# Altium footprint library CLAP.PcbLib: 265 footprints (part 7 of 17)
Each footprint in its own frame and in the unit in brackets; x right, y up, seen from the top. Pads: shape width x height; smd on the part's side, far side on the other; paste and mask are expansions set on the pad; w line width, h text height; cw(c..) or ccw(c..) is an arc to the next point about the centre after c.
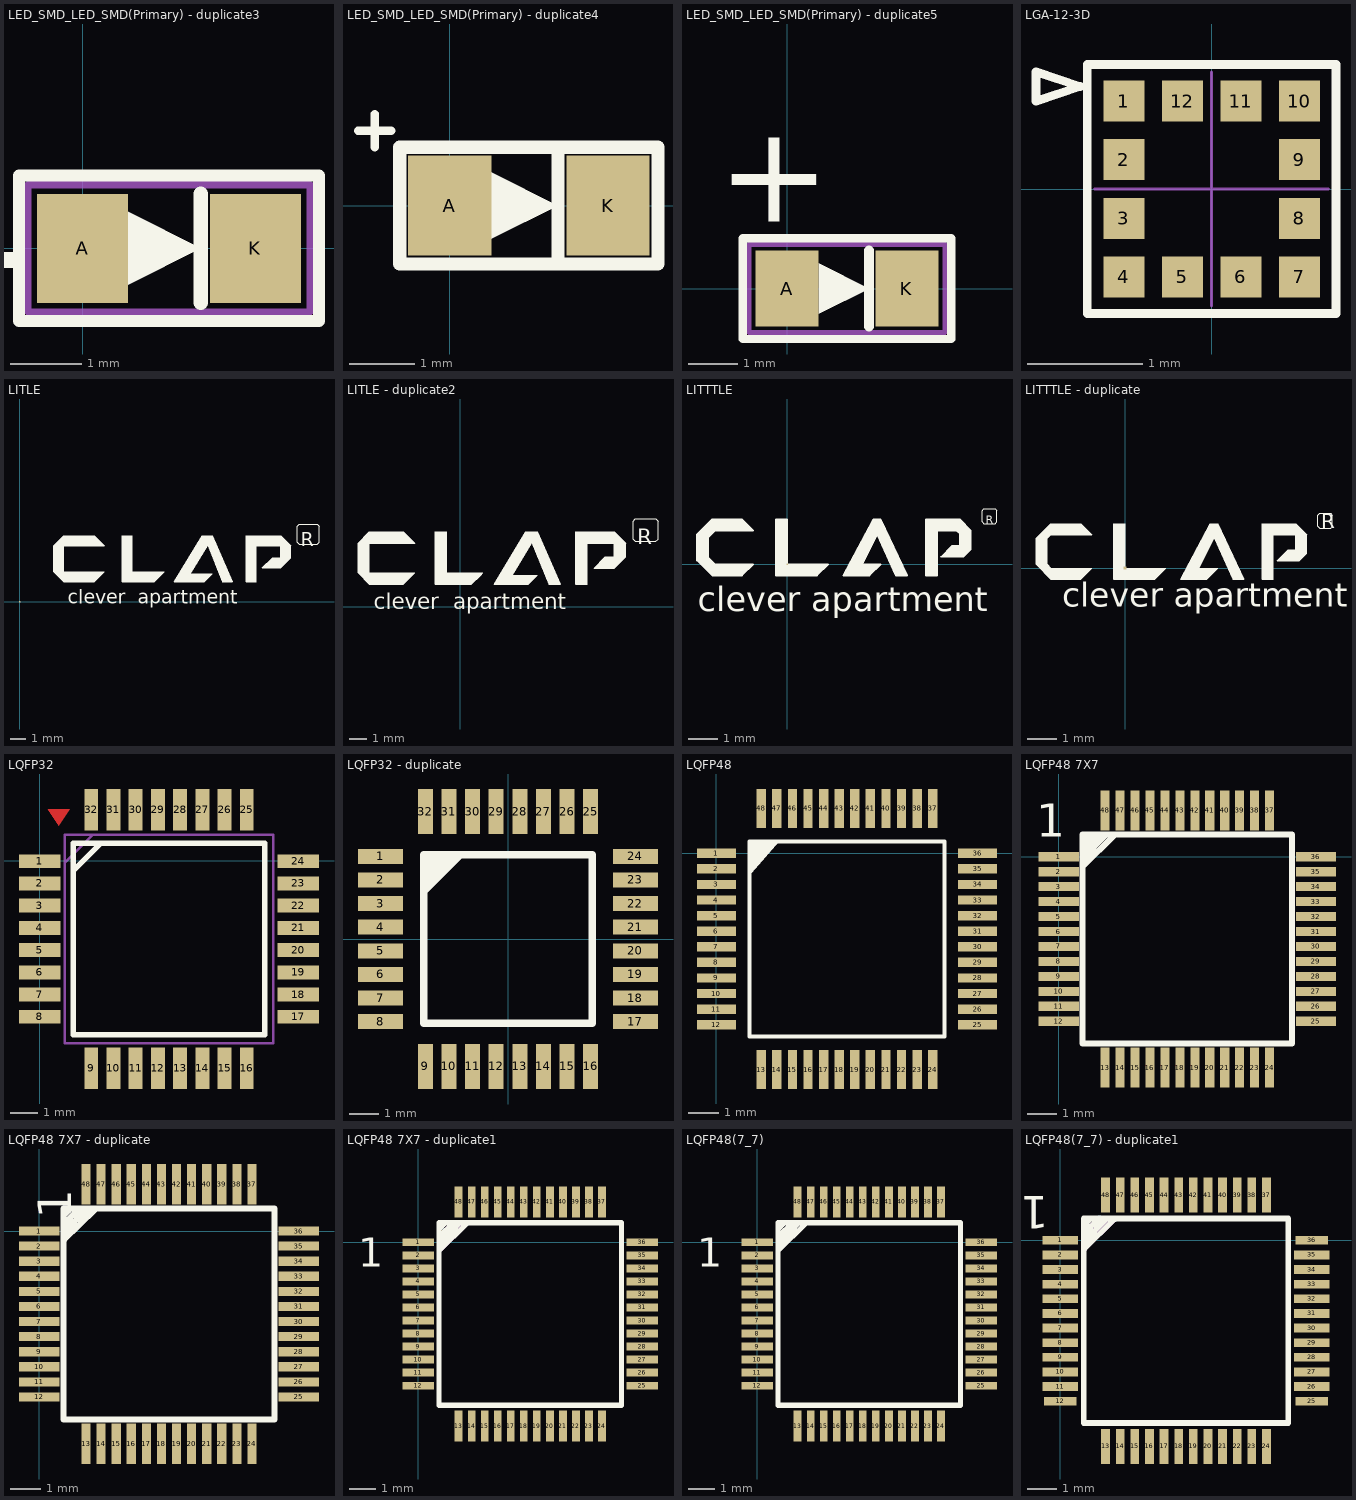
[diagram p6: the footprints below, top view; thin cyan lines are the x and y axes]

## LED_SMD_LED_SMD(Primary) - duplicate3 [mil]
pads (2):
  rect 50x60 smd: A(0,0) K(95,0)
Top Overlay:
  region: 65,0 25,-20 25,20
  lines w6.69: -35,-40 -35,40 130,40 130,-40 -35,-40
  lines w8: 65,-30 65,30
  text "+" at -20.61,27.12 h78.12
Mechanical 1:
  lines w3.94: -30,-35 -30,35 125,35 125,-35 -30,-35
  text "+" at -18.65,56.65 h78.12
3D body "LED_1206_3216Metric.step": height 43.31, standoff 0, extent -15.75,-31.5 110.23,31.5

## LED_SMD_LED_SMD(Primary) - duplicate4 [mil]
pads (2):
  rect 50x60 smd: A(0,0) K(95,0)
Top Overlay:
  region: 25,20 25,-20 65,0
  lines w5: -55,45 -35,45 ; -45,35 -45,55
  lines w8: 65,-30 65,30 ; -30,-35 -30,35 125,35 125,-35 -30,-35
3D body "LED_1206_3216Metric.step": height 43.31, standoff 0, extent -15.75,-31.5 110.23,31.49

## LED_SMD_LED_SMD(Primary) - duplicate5 [mil]
pads (2):
  rect 50x60 smd: A(0,0) K(95,0)
Top Overlay:
  region: 65,0 25,-20 25,20
  lines w6.69: -35,-40 130,-40 130,40 -35,40 -35,-40
  lines w8: 65,-30 65,30
  text "+" at 34.5,119.64 h78.12
Mechanical 1:
  lines w3.94: -30,-35 125,-35 125,35 -30,35 -30,-35
  text "+" at 36.47,52.71 h78.12
3D body "LED_1206_3216Metric.step": height 43.31, standoff 0, extent -13,-31.5 112.99,31.49

## LGA-12-3D [mil]
pads (12):
  rect 14x14 smd: 1(-30,30) 2(-30,10) 3(-30,-10) 4(-30,-30) 5(-10,-30) 6(10,-30) 7(30,-30) 8(30,-10) 9(30,10) 10(30,30) 11(10,30) 12(-10,30)
Top Overlay:
  lines w3: -60,30 -45,35 -60,40 -60,30 ; -42.5,-42.5 42.5,-42.5 42.5,42.5 -42.5,42.5 -42.5,-42.5
Mechanical 1:
  lines w1: -40,0 40,0 ; 0,-40 0,40
3D body "PQFN12P50_200X200X70L27X25.STEP": height 27.56, standoff 0, extent -39.37,-39.37 39.37,39.37

## LITLE [mm]
pads (1):
  rect 0.1x0.1 smd: 1(0,0)
Top Overlay:
  region: 14.351,1.27 14.986,1.27 14.986,3.556 16.51,3.556 16.51,2.794 16.002,2.794 15.367,2.159 16.51,2.159 17.145,2.794 17.145,3.556 16.51,4.191 14.351,4.191
  region: 6.477,1.27 8.509,1.27 9.144,1.905 7.112,1.905 7.112,4.191 6.477,4.191
  region: 9.779,1.27 11.684,1.27 12.192,1.778 10.795,1.778 11.259,2.588 11.889,3.596 12.827,1.27 13.462,1.27 12.192,4.191 11.557,4.191
  region: 2.159,3.556 2.159,1.905 2.794,1.27 4.699,1.27 5.334,1.905 2.794,1.905 2.794,3.556 5.334,3.556 4.699,4.191 2.794,4.191
  lines w0.025: 11.889,3.596 10.795,1.778 12.192,1.778 11.684,1.27 10.414,1.27 9.779,1.27 11.557,4.191 12.065,4.191 12.192,4.191 13.462,1.27 12.827,1.27 11.938,3.556 ; 2.159,1.905 2.159,3.556 2.794,4.191 4.699,4.191 5.334,3.556 2.794,3.556 2.794,1.905 5.334,1.905 4.699,1.27 2.794,1.27 2.159,1.905 ; 6.477,1.27 8.509,1.27 9.017,1.778 9.144,1.905 7.112,1.905 7.112,4.191 6.477,4.191 6.477,1.27 ; 14.351,1.27 14.351,4.191 16.51,4.191 17.145,3.556 17.145,2.794 16.51,2.159 15.367,2.159 16.002,2.794 16.51,2.794 16.51,3.556 14.986,3.556 14.986,1.27 14.351,1.27 ; 17.559,3.785 17.559,4.793 17.685,4.919 18.819,4.919 18.945,4.793 18.945,3.785 18.819,3.659 17.685,3.659 17.559,3.785
  text "clever  apartment" at 3.048,-0.127 h0.87
  text "R" at 17.78,3.505 h0.87

## LITLE - duplicate2 [mm]
pads (1):
  rect 0.1x0.1 smd: 1(0,0)
Top Overlay:
  region: -5.715,3.556 -5.715,1.905 -5.08,1.27 -3.175,1.27 -2.54,1.905 -5.08,1.905 -5.08,3.556 -2.54,3.556 -3.175,4.191 -5.08,4.191
  region: 1.905,1.27 3.81,1.27 4.318,1.778 2.921,1.778 3.385,2.588 4.015,3.596 4.953,1.27 5.588,1.27 4.318,4.191 3.683,4.191
  region: -1.397,1.27 0.635,1.27 1.27,1.905 -0.762,1.905 -0.762,4.191 -1.397,4.191
  region: 6.477,1.27 7.112,1.27 7.112,3.556 8.636,3.556 8.636,2.794 8.128,2.794 7.493,2.159 8.636,2.159 9.271,2.794 9.271,3.556 8.636,4.191 6.477,4.191
  lines w0.025: 4.015,3.596 2.921,1.778 4.318,1.778 3.81,1.27 2.54,1.27 1.905,1.27 3.683,4.191 4.191,4.191 4.318,4.191 5.588,1.27 4.953,1.27 4.064,3.556 ; -5.715,1.905 -5.08,1.27 -3.175,1.27 -2.54,1.905 -5.08,1.905 -5.08,3.556 -2.54,3.556 -3.175,4.191 -5.08,4.191 -5.715,3.556 -5.715,1.905 ; -1.397,1.27 -1.397,4.191 -0.762,4.191 -0.762,1.905 1.27,1.905 1.143,1.778 0.635,1.27 -1.397,1.27 ; 6.477,1.27 7.112,1.27 7.112,3.556 8.636,3.556 8.636,2.794 8.128,2.794 7.493,2.159 8.636,2.159 9.271,2.794 9.271,3.556 8.636,4.191 6.477,4.191 6.477,1.27 ; 9.685,3.785 9.811,3.659 10.945,3.659 11.071,3.785 11.071,4.793 10.945,4.919 9.811,4.919 9.685,4.793 9.685,3.785
  text "R" at 9.906,3.505 h0.87
  text "clever  apartment" at -4.826,-0.127 h0.87

## LITTTLE [mm]
pads (1):
  rect 0.05x0.05 smd: 1(0,0)
Top Overlay:
  region: -2.413,1.143 -2.667,0.889 -2.667,0.254 -2.413,0 -1.143,0 -1.524,-0.381 -2.54,-0.381 -3.048,0.127 -3.048,1.016 -2.54,1.524 -1.524,1.524 -1.143,1.143
  region: 0,1.524 0,0 1.397,0 1.016,-0.381 -0.381,-0.381 -0.381,1.524
  region: 4.699,-0.381 4.699,1.524 5.842,1.524 6.223,1.143 6.223,0.508 5.969,0.254 5.207,0.254 5.588,0.635 5.842,0.635 5.842,1.016 5.715,1.143 5.08,1.143 5.08,-0.381
  region: 3.175,0 2.794,-0.381 1.905,-0.381 2.921,1.524 3.175,1.524 4.064,-0.381 3.683,-0.381 3.048,1.016 2.54,0
  lines w0.025: -2.667,0.127 -2.54,0 ; -2.667,1.016 -2.54,1.143 ; 6.6,1.434 6.663,1.371 7.041,1.371 7.104,1.434 7.104,1.812 7.041,1.875 6.663,1.875 6.6,1.812 6.6,1.434
  lines w0.051: -2.667,0.127 -2.667,1.016 ; -2.54,0 -1.143,0 -1.524,-0.381 -2.54,-0.381 -3.048,0.127 -3.048,1.016 -2.54,1.524 -1.778,1.524 -1.524,1.524 -1.143,1.143 -2.54,1.143 ; -0.381,-0.381 1.016,-0.381 1.397,0 0,0 0,1.524 -0.381,1.524 -0.381,-0.381 ; 1.905,-0.381 2.667,-0.381 2.794,-0.381 3.175,0 2.54,0 3.048,1.016 3.683,-0.381 4.064,-0.381 3.175,1.524 2.921,1.524 1.905,-0.381 ; 4.699,-0.381 5.08,-0.381 5.08,1.143 5.842,1.143 5.842,0.635 5.588,0.635 5.207,0.254 5.969,0.254 6.223,0.508 6.223,1.143 5.842,1.524 4.699,1.524 4.699,-0.381
  text "R" at 6.726,1.371 h0.28
  text "clever apartment" at -3.02,-1.85 h1.41

## LITTTLE - duplicate [mm]
pads (1):
  rect 0.1x0.1 smd: 1(0,0)
Top Overlay:
  region: -2.54,1.524 -1.524,1.524 -1.143,1.143 -2.54,1.143 -2.667,1.016 -2.667,0.127 -2.54,0 -1.143,0 -1.524,-0.381 -2.54,-0.381 -3.048,0.127 -3.048,1.016
  region: 2.921,1.524 3.175,1.524 4.064,-0.381 3.683,-0.381 3.048,1.016 2.54,0 3.175,0 2.794,-0.381 1.905,-0.381
  region: 4.699,1.524 5.842,1.524 6.223,1.143 6.223,0.508 5.969,0.254 5.207,0.254 5.588,0.635 5.842,0.635 5.842,1.143 5.08,1.143 5.08,-0.381 4.699,-0.381
  region: -0.381,1.524 0,1.524 0,0 1.397,0 1.016,-0.381 -0.381,-0.381
  lines w0.025: -3.048,0.127 -3.048,1.016 -2.54,1.524 -1.778,1.524 -1.524,1.524 -1.143,1.143 -2.54,1.143 -2.667,1.016 -2.667,0.127 -2.54,0 -1.143,0 -1.524,-0.381 -2.54,-0.381 -3.048,0.127 ; -0.381,-0.381 -0.381,1.524 0,1.524 0,0 1.397,0 1.016,-0.381 -0.381,-0.381 ; 1.905,-0.381 2.667,-0.381 2.794,-0.381 3.175,0 2.54,0 3.048,1.016 3.683,-0.381 4.064,-0.381 3.175,1.524 2.921,1.524 1.905,-0.381 ; 4.699,-0.381 5.08,-0.381 5.08,1.143 5.842,1.143 5.842,0.635 5.588,0.635 5.207,0.254 5.969,0.254 6.223,0.508 6.223,1.143 5.842,1.524 4.699,1.524 4.699,-0.381 ; 6.6,1.434 6.663,1.371 7.041,1.371 7.104,1.434 7.104,1.812 7.041,1.875 6.663,1.875 6.6,1.812 6.6,1.434
  text "R" at 6.726,1.371 h0.5
  text "clever apartment" at -2.157,-1.59 h1.41

## LQFP32 [mm]
height 1.5
pads (32):
  rect 1.5x0.5 smd: 1(0,-0.01) 2(0,-0.81) 3(0,-1.61) 4(0,-2.41) 5(0,-3.21) 6(0,-4.01) 7(0,-4.81) 8(0,-5.61) 17(9.3,-5.61) 18(9.3,-4.81) 19(9.3,-4.01) 20(9.3,-3.21) 21(9.3,-2.41) 22(9.3,-1.61) 23(9.3,-0.81) 24(9.3,-0.01)
  rect 0.5x1.5 smd: 9(1.85,-7.46) 10(2.65,-7.46) 11(3.45,-7.46) 12(4.25,-7.46) 13(5.05,-7.46) 14(5.85,-7.46) 15(6.65,-7.46) 16(7.45,-7.46) 25(7.45,1.84) 26(6.65,1.84) 27(5.85,1.84) 28(5.05,1.84) 29(4.25,1.84) 30(3.45,1.84) 31(2.65,1.84) 32(1.85,1.84)
Top Layer:
  region: 0.28,1.86 1.08,1.86 0.68,1.26
Top Overlay:
  lines w0.2: 1.2,-0.36 2.2,0.64 ; 1.2,-6.26 8.1,-6.26 8.1,0.64 1.2,0.64 1.2,-6.26
Mechanical 1:
  lines w0.1: 0.9,-0.06 1.9,0.94 ; 0.9,-6.56 8.4,-6.56 8.4,0.94 0.9,0.94 0.9,0.69 0.9,-6.31 0.9,-6.56
3D body "LQFP-32_7x7mm_P0.8mm.step": height 1.5, standoff 0, extent 0.15,-7.3 9.15,1.7

## LQFP32 - duplicate [mil]
pads (32):
  rect 60x20 smd: 1(-170,110.25) 2(-170,78.75) 3(-170,47.25) 4(-170,15.75) 5(-170,-15.75) 6(-170,-47.25) 7(-170,-78.75) 8(-170,-110.25) 17(170,-110.25) 18(170,-78.75) 19(170,-47.25) 20(170,-15.75) 21(170,15.75) 22(170,47.25) 23(170,78.75) 24(170,110.25)
  rect 20x60 smd: 9(-110.25,-170) 10(-78.75,-170) 11(-47.25,-170) 12(-15.75,-170) 13(15.75,-170) 14(47.25,-170) 15(78.75,-170) 16(110.25,-170) 25(110.25,170) 26(78.75,170) 27(47.25,170) 28(15.75,170) 29(-15.75,170) 30(-47.25,170) 31(-78.75,170) 32(-110.25,170)
Top Overlay:
  region: -110,60 -60,110 -110,110
  lines w10: -112.5,-112.5 -112.5,112.5 112.5,112.5 112.5,-112.5 -112.5,-112.5
3D body "LQFP-32_7x7mm_P0.8mm.step": height 59.06, standoff 0, extent -177.16,-177.16 177.16,177.17

## LQFP48 [mil]
pads (48):
  rect 50x12 smd: 1(0,0) 2(0,-20) 3(0,-40) 4(0,-60) 5(0,-80) 6(0,-100) 7(0,-120) 8(0,-140) 9(0,-160) 10(0,-180) 11(0,-200) 12(0,-220) 25(335,-220) 26(335,-200) 27(335,-180) 28(335,-160) 29(335,-140) 30(335,-120) 31(335,-100) 32(335,-80) 33(335,-60) 34(335,-40) 35(335,-20) 36(335,0)
  rect 12x50 smd: 13(57.5,-277.5) 14(77.5,-277.5) 15(97.5,-277.5) 16(117.5,-277.5) 17(137.5,-277.5) 18(157.5,-277.5) 19(177.5,-277.5) 20(197.5,-277.5) 21(217.5,-277.5) 22(237.5,-277.5) 23(257.5,-277.5) 24(277.5,-277.5) 37(277.5,57.5) 38(257.5,57.5) 39(237.5,57.5) 40(217.5,57.5) 41(197.5,57.5) 42(177.5,57.5) 43(157.5,57.5) 44(137.5,57.5) 45(117.5,57.5) 46(97.5,57.5) 47(77.5,57.5) 48(57.5,57.5)
Top Overlay:
  region: 45,-25 80,15 45,15
  lines w5: 42.5,-235 292.5,-235 292.5,15 42.5,15 42.5,-235
3D body "LQFP-48_7x7mm_P0.5mm.step": height 59.06, standoff 0, extent -8.85,-287.4 345.48,66.93

## LQFP48 7X7 [mil]
pads (48):
  rect 53x12 smd: 1(0,0) 2(0,-19.68) 3(0,-39.37) 4(0,-59.06) 5(0,-78.74) 6(0,-98.43) 7(0,-118.11) 8(0,-137.8) 9(0,-157.48) 10(0,-177.17) 11(0,-196.85) 12(0,-216.54) 25(338.58,-216.54) 26(338.58,-196.85) 27(338.58,-177.17) 28(338.58,-157.48) 29(338.58,-137.8) 30(338.58,-118.11) 31(338.58,-98.43) 32(338.58,-78.74) 33(338.58,-59.06) 34(338.58,-39.37) 35(338.58,-19.68) 36(338.58,0)
  rect 12x53 smd: 13(61.02,-277.56) 14(80.71,-277.56) 15(100.39,-277.56) 16(120.08,-277.56) 17(139.76,-277.56) 18(159.45,-277.56) 19(179.13,-277.56) 20(198.82,-277.56) 21(218.5,-277.56) 22(238.19,-277.56) 23(257.87,-277.56) 24(277.56,-277.56) 37(277.56,61.02) 38(257.87,61.02) 39(238.19,61.02) 40(218.5,61.02) 41(198.82,61.02) 42(179.13,61.02) 43(159.45,61.02) 44(139.76,61.02) 45(120.08,61.02) 46(100.39,61.02) 47(80.71,61.02) 48(61.02,61.02)
Top Overlay:
  lines w7.87: 31.5,19.68 41.34,29.53 ; 32.28,-0.79 62.2,28.74 ; 32.28,9.84 52.76,29.53 ; 32.68,-11.02 72.44,27.95 ; 31.5,-246.06 307.09,-246.06 307.09,29.53 31.5,29.53 31.5,-246.06
  text "1" at -30.03,26.21 h43.75
3D body "QFP50P900X900X160-48N.stp": height 62.99, standoff 0.01, extent -7.87,-285.43 346.46,68.9

## LQFP48 7X7 - duplicate [mil]
pads (48):
  rect 53x12 smd: 1(0,0) 2(0,-19.68) 3(0,-39.37) 4(0,-59.06) 5(0,-78.74) 6(0,-98.43) 7(0,-118.11) 8(0,-137.8) 9(0,-157.48) 10(0,-177.17) 11(0,-196.85) 12(0,-216.54) 25(338.58,-216.54) 26(338.58,-196.85) 27(338.58,-177.17) 28(338.58,-157.48) 29(338.58,-137.8) 30(338.58,-118.11) 31(338.58,-98.43) 32(338.58,-78.74) 33(338.58,-59.06) 34(338.58,-39.37) 35(338.58,-19.68) 36(338.58,0)
  rect 12x53 smd: 13(61.02,-277.56) 14(80.71,-277.56) 15(100.39,-277.56) 16(120.08,-277.56) 17(139.76,-277.56) 18(159.45,-277.56) 19(179.13,-277.56) 20(198.82,-277.56) 21(218.5,-277.56) 22(238.19,-277.56) 23(257.87,-277.56) 24(277.56,-277.56) 37(277.56,61.02) 38(257.87,61.02) 39(238.19,61.02) 40(218.5,61.02) 41(198.82,61.02) 42(179.13,61.02) 43(159.45,61.02) 44(139.76,61.02) 45(120.08,61.02) 46(100.39,61.02) 47(80.71,61.02) 48(61.02,61.02)
Top Overlay:
  lines w7.87: 31.5,19.68 41.34,29.53 ; 32.28,-0.79 62.2,28.74 ; 32.28,9.84 52.76,29.53 ; 32.68,-11.02 72.44,27.95 ; 31.5,-246.06 307.09,-246.06 307.09,29.53 31.5,29.53 31.5,-246.06
  text "1" at 41.62,15.88 h43.75
3D body "LQFP-48_7x7mm_P0.5mm.step": height 59.06, standoff 0, extent -7.87,-285.43 346.46,68.9

## LQFP48 7X7 - duplicate1 [mm]
height 1.6
pads (48):
  rect 1.2x0.3 smd: 1(0,0) 2(0,-0.5) 3(0,-1) 4(0,-1.5) 5(0,-2) 6(0,-2.5) 7(0,-3) 8(0,-3.5) 9(0,-4) 10(0,-4.5) 11(0,-5) 12(0,-5.5) 25(8.6,-5.5) 26(8.6,-5) 27(8.6,-4.5) 28(8.6,-4) 29(8.6,-3.5) 30(8.6,-3) 31(8.6,-2.5) 32(8.6,-2) 33(8.6,-1.5) 34(8.6,-1) 35(8.6,-0.5) 36(8.6,0)
  rect 0.3x1.2 smd: 13(1.55,-7.05) 14(2.05,-7.05) 15(2.55,-7.05) 16(3.05,-7.05) 17(3.55,-7.05) 18(4.05,-7.05) 19(4.55,-7.05) 20(5.05,-7.05) 21(5.55,-7.05) 22(6.05,-7.05) 23(6.55,-7.05) 24(7.05,-7.05) 37(7.05,1.55) 38(6.55,1.55) 39(6.05,1.55) 40(5.55,1.55) 41(5.05,1.55) 42(4.55,1.55) 43(4.05,1.55) 44(3.55,1.55) 45(3.05,1.55) 46(2.55,1.55) 47(2.05,1.55) 48(1.55,1.55)
Top Overlay:
  lines w0.2: 0.8,0.5 1.05,0.75 ; 0.82,-0.02 1.58,0.73 ; 0.82,0.25 1.34,0.75 ; 0.83,-0.28 1.84,0.71 ; 0.8,-6.25 0.8,0.75 7.8,0.75 7.8,-6.25 0.8,-6.25
  text "1" at -2.313,-0.934 h1.11
Mechanical 1:
  lines w0.1: 0.8,0.5 1.05,0.75 ; 0.8,-6.25 0.8,0.75 7.8,0.75 7.8,-6.25 0.8,-6.25
  lines w0.2: 0.82,-0.02 1.58,0.73 ; 0.82,0.25 1.34,0.75 ; 0.83,-0.28 1.84,0.71
  text "1" at -2.313,-0.934 h1.11
3D body "LQFP-48_7x7mm_P0.5mm.step": height 1.5, standoff 0, extent -0.2,-7.25 8.8,1.75

## LQFP48(7_7) [mm]
pads (48):
  rect 1.2x0.3 smd: 1(0,0) 2(0,-0.5) 3(0,-1) 4(0,-1.5) 5(0,-2) 6(0,-2.5) 7(0,-3) 8(0,-3.5) 9(0,-4) 10(0,-4.5) 11(0,-5) 12(0,-5.5) 25(8.6,-5.5) 26(8.6,-5) 27(8.6,-4.5) 28(8.6,-4) 29(8.6,-3.5) 30(8.6,-3) 31(8.6,-2.5) 32(8.6,-2) 33(8.6,-1.5) 34(8.6,-1) 35(8.6,-0.5) 36(8.6,0)
  rect 0.3x1.2 smd: 13(1.55,-7.05) 14(2.05,-7.05) 15(2.55,-7.05) 16(3.05,-7.05) 17(3.55,-7.05) 18(4.05,-7.05) 19(4.55,-7.05) 20(5.05,-7.05) 21(5.55,-7.05) 22(6.05,-7.05) 23(6.55,-7.05) 24(7.05,-7.05) 37(7.05,1.55) 38(6.55,1.55) 39(6.05,1.55) 40(5.55,1.55) 41(5.05,1.55) 42(4.55,1.55) 43(4.05,1.55) 44(3.55,1.55) 45(3.05,1.55) 46(2.55,1.55) 47(2.05,1.55) 48(1.55,1.55)
Top Overlay:
  lines w0.2: 0.8,0.5 1.05,0.75 ; 0.82,-0.02 1.58,0.73 ; 0.82,0.25 1.34,0.75 ; 0.83,-0.28 1.84,0.71 ; 0.8,-6.25 7.8,-6.25 7.8,0.75 0.8,0.75 0.8,-6.25
  text "1" at -2.313,-0.934 h1.11
Mechanical 1:
  lines w0.1: 0.8,0.5 1.05,0.75 ; 0.8,-6.25 7.8,-6.25 7.8,0.75 0.8,0.75 0.8,-6.25
  text "1" at -2.313,-0.934 h1.11
3D body "LQFP-48_7x7mm_P0.5mm.step": height 1.5, standoff 0, extent -0.2,-7.25 8.8,1.75

## LQFP48(7_7) - duplicate1 [mm]
pads (48):
  rect 1.2x0.3 smd: 1(0,0) 2(0,-0.5) 3(0,-1) 4(0,-1.5) 5(0,-2) 6(0,-2.5) 7(0,-3) 8(0,-3.5) 9(0,-4) 10(0,-4.5) 11(0,-5) 26(8.6,-5) 27(8.6,-4.5) 28(8.6,-4) 29(8.6,-3.5) 30(8.6,-3) 31(8.6,-2.5) 32(8.6,-2) 33(8.6,-1.5) 34(8.6,-1) 35(8.6,-0.5)
  rect 1.1x0.3 smd: 12(0,-5.5) 25(8.6,-5.5) 36(8.6,0)
  rect 0.3x1.2 smd: 13(1.55,-7.05) 14(2.05,-7.05) 15(2.55,-7.05) 16(3.05,-7.05) 17(3.55,-7.05) 18(4.05,-7.05) 19(4.55,-7.05) 20(5.05,-7.05) 21(5.55,-7.05) 22(6.05,-7.05) 23(6.55,-7.05) 24(7.05,-7.05) 37(7.05,1.55) 38(6.55,1.55) 39(6.05,1.55) 40(5.55,1.55) 41(5.05,1.55) 42(4.55,1.55) 43(4.05,1.55) 44(3.55,1.55) 45(3.05,1.55) 46(2.55,1.55) 47(2.05,1.55) 48(1.55,1.55)
Top Overlay:
  lines w0.2: 0.8,0.5 1.05,0.75 ; 0.82,-0.02 1.58,0.73 ; 0.82,0.25 1.34,0.75 ; 0.83,-0.28 1.84,0.71 ; 0.8,-6.25 0.8,0.75 7.8,0.75 7.8,-6.25 0.8,-6.25
  text "1" at -0.394,1.5 h1.11
Mechanical 1:
  lines w0.1: 0.8,0.5 1.05,0.75 ; 0.8,-6.25 0.8,0.75 7.8,0.75 7.8,-6.25 0.8,-6.25
  lines w0.2: 0.82,-0.02 1.58,0.73 ; 0.82,0.25 1.34,0.75 ; 0.83,-0.28 1.84,0.71
  text "1" at 0.806,1.6 h1.11
3D body "LQFP-48_7x7mm_P0.5mm.step": height 1.5, standoff 0, extent -0.2,-7.25 8.8,1.75